# Altium schematic symbol library CHXXX.schlib: 542 symbols (part 8 of 8)
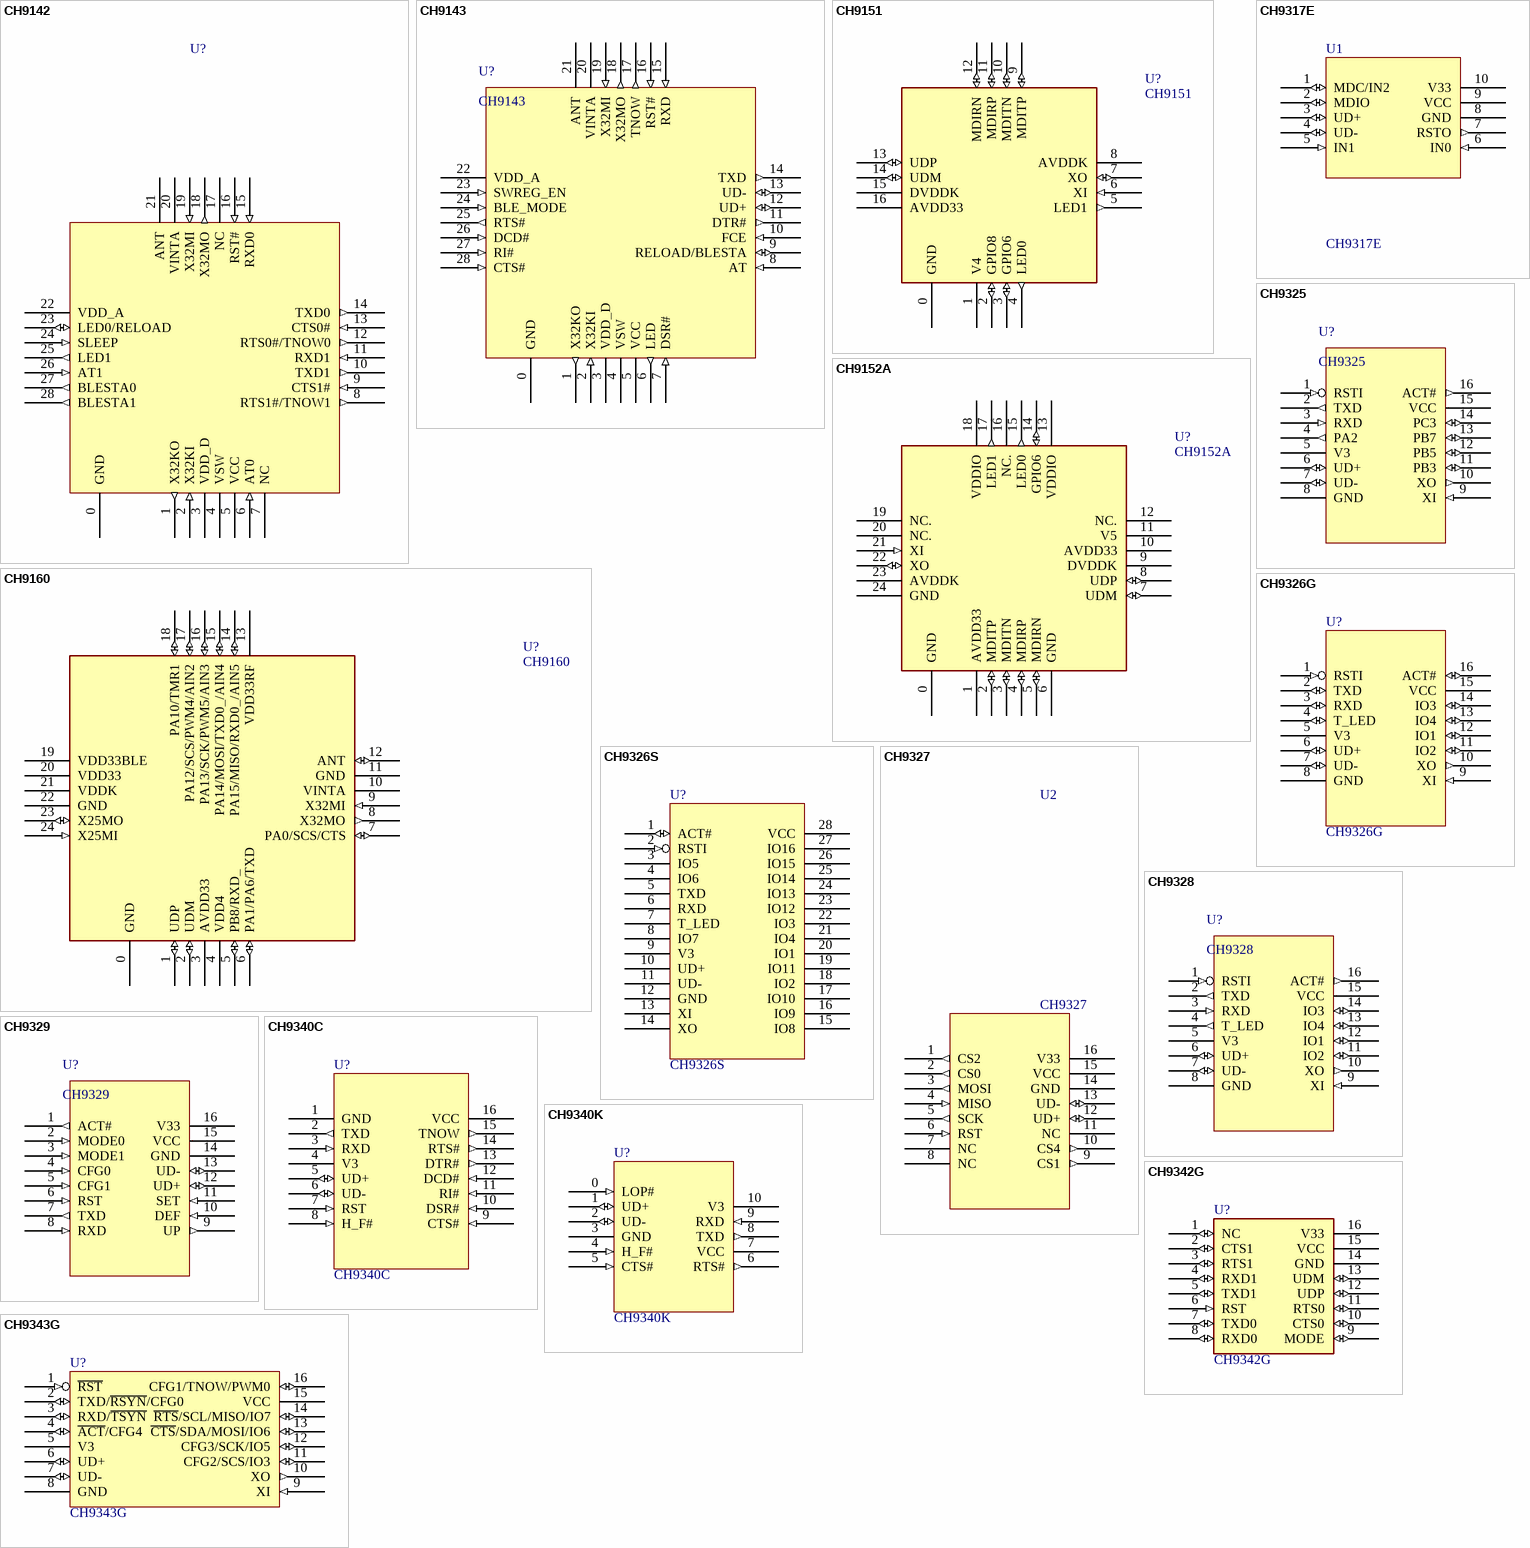
[diagram p78: symbols CH9142 to CH9343G]

## CH9340K
designator U?
USB CDC to TTL Serial / UART
footprint ESSOP10
pins: 0 LOP# (in), 1 UD+ (io), 2 UD- (io), 3 GND (power), 4 H_F# (in), 5 CTS# (in), 6 RTS# (out), 7 VCC (power), 8 TXD (out), 9 RXD (in), 10 V3 (power)

## CH9342G
designator U?
USB to dual TTL Serial / 2*UART
footprint SOP16
pins: 1 NC (io), 2 CTS1 (io), 3 RTS1 (io), 4 RXD1 (io), 5 TXD1 (io), 6 RST (in), 7 TXD0 (io), 8 RXD0 (io), 9 MODE (io), 10 CTS0 (io), 11 RTS0 (io), 12 UDP (io), 13 UDM (io), 14 GND (power), 15 VCC (power), 16 V33 (power)
2 alternate drawings of the same symbol

## CH9343G
designator U?
Full-Speed USB host for accessing peripheral hardware from Android platform
footprint SOP16
pins: 1 ~{RST} (in), 2 TXD/~{RSYN}/CFG0 (io), 3 RXD/~{TSYN} (io), 4 ~{ACT}/CFG4 (io), 5 V3 (power), 6 UD+ (io), 7 UD- (io), 8 GND (power), 9 XI (in), 10 XO (out), 11 CFG2/SCS/IO3 (io), 12 CFG3/SCK/IO5 (io), 13 ~{CTS}/SDA/MOSI/IO6 (io), 14 ~{RTS}/SCL/MISO/IO7 (io), 15 VCC (power), 16 CFG1/TNOW/PWM0 (io)

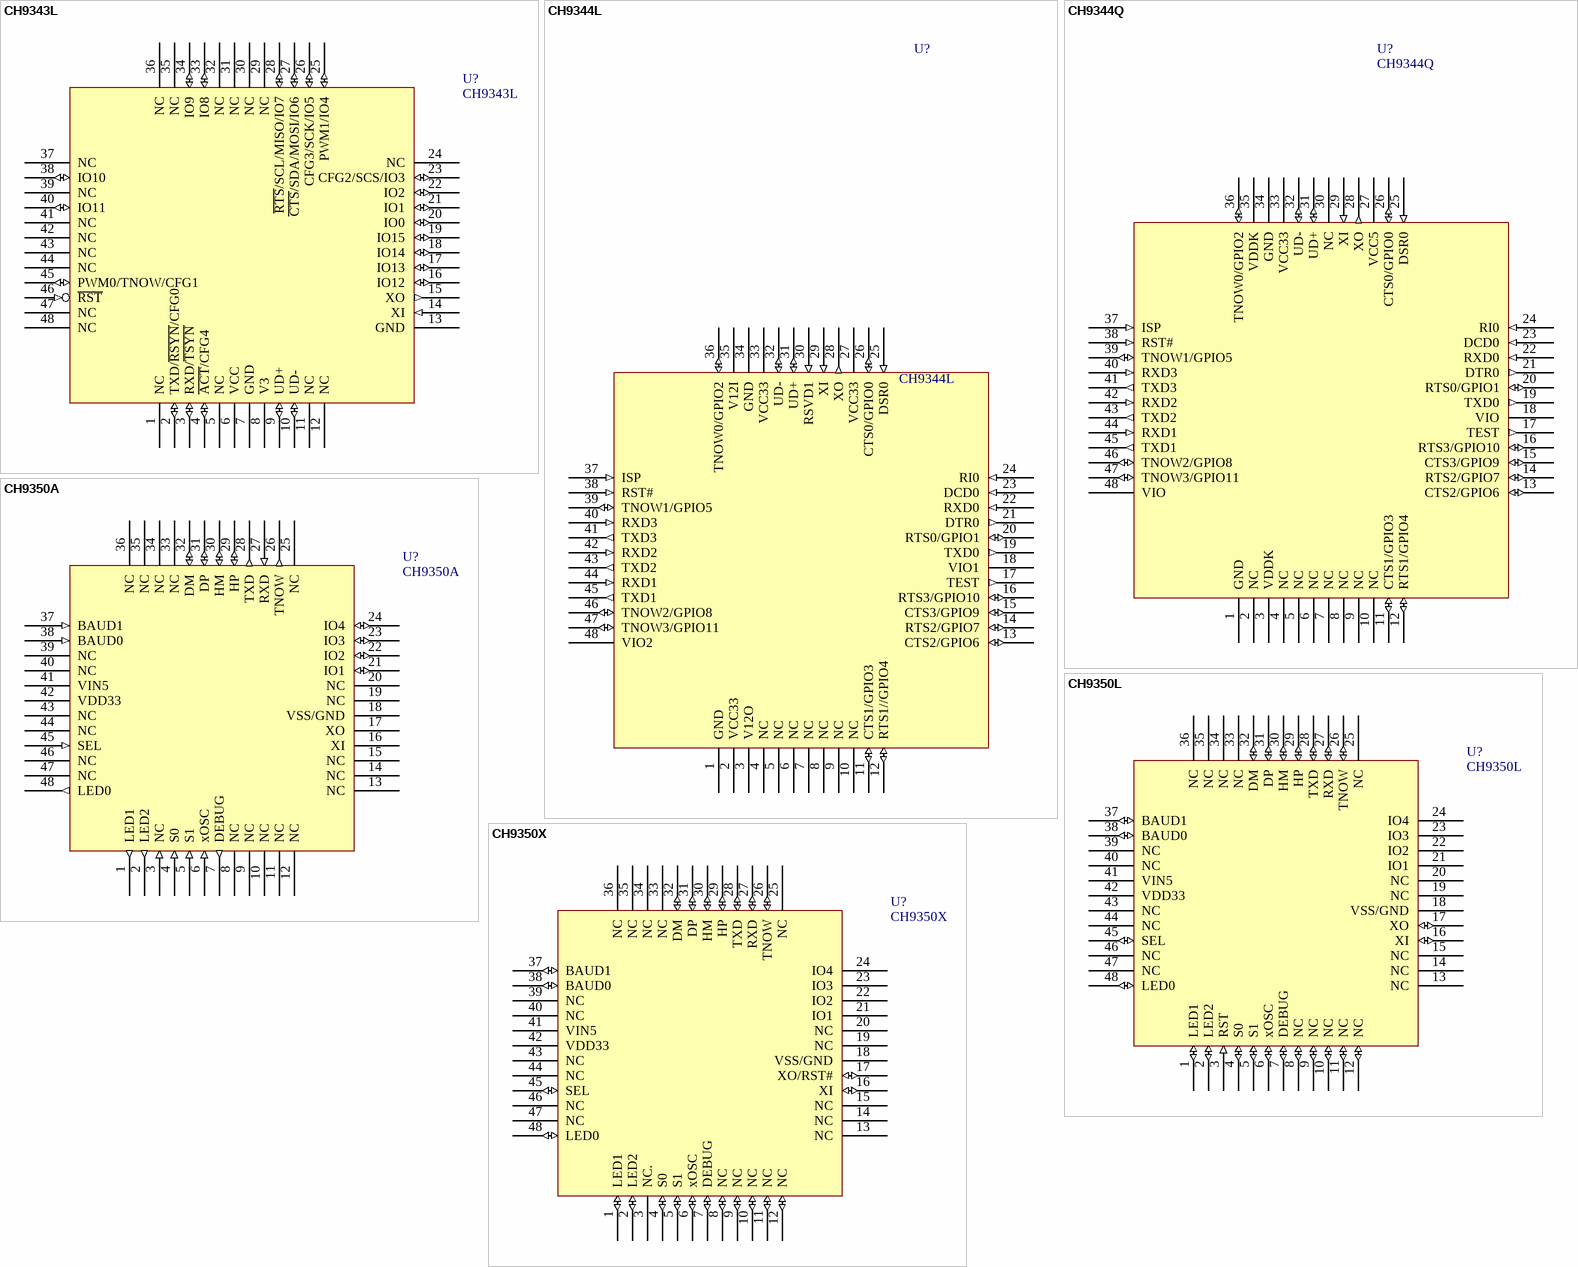
[diagram p68: symbols CH9343L to CH9350X]

## CH9343L
designator U?
Full-Speed USB host for accessing peripheral hardware from Android platform
footprint LQFP48
pins: 1 NC, 2 TXD/~{RSYN}/CFG0 (io), 3 RXD/~{TSYN} (io), 4 ~{ACT}/CFG4 (io), 5 NC, 6 VCC (power), 7 GND (power), 8 V3 (power), 9 UD+ (io), 10 UD- (io), 11 NC, 12 NC, 13 GND (power), 14 XI (in), 15 XO (out), 16 IO12 (io), 17 IO13 (io), 18 IO14 (io), 19 IO15 (io), 20 IO0 (io), 21 IO1 (io), 22 IO2 (io), 23 CFG2/SCS/IO3 (io), 24 NC, 25 PWM1/IO4 (io), 26 CFG3/SCK/IO5 (io), 27 ~{CTS}/SDA/MOSI/IO6 (io), 28 ~{RTS}/SCL/MISO/IO7 (io), 29 NC, 30 NC, 31 NC, 32 NC, 33 IO8 (io), 34 IO9 (io), 35 NC, 36 NC, 37 NC, 38 IO10 (io), 39 NC, 40 IO11 (io), 41 NC, 42 NC, 43 NC, 44 NC, 45 PWM0/TNOW/CFG1 (io), 46 ~{RST} (in), 47 NC, 48 NC

## CH9344L
designator U?
USB high-speed to quad TTL Serial / UART
footprint LQFP48
pins: 1 GND (power), 2 VCC33 (power), 3 V12O (power), 4 NC, 5 NC, 6 NC, 7 NC, 8 NC, 9 NC, 10 NC, 11 CTS1/GPIO3 (io), 12 RTS1//GPIO4 (io), 13 CTS2/GPIO6 (io), 14 RTS2/GPIO7 (io), 15 CTS3/GPIO9 (io), 16 RTS3/GPIO10 (io), 17 TEST (out), 18 VIO1 (power), 19 TXD0 (out), 20 RTS0/GPIO1 (io), 21 DTR0 (out), 22 RXD0 (in), 23 DCD0 (in), 24 RI0 (in), 25 DSR0 (in), 26 CTS0/GPIO0 (io), 27 VCC33 (power), 28 XO (out), 29 XI (in), 30 RSVD1 (in), 31 UD+ (io), 32 UD- (io), 33 VCC33 (power), 34 GND (power), 35 V12I (power), 36 TNOW0/GPIO2 (io), 37 ISP (in), 38 RST# (in), 39 TNOW1/GPIO5 (io), 40 RXD3 (in), 41 TXD3 (out), 42 RXD2 (in), 43 TXD2 (out), 44 RXD1 (in), 45 TXD1 (out), 46 TNOW2/GPIO8 (io), 47 TNOW3/GPIO11 (io), 48 VIO2 (power)

## CH9344Q
designator U?
USB high-speed to quad TTL Serial / UART
footprint LQFP48
pins: 1 GND (power), 2 NC, 3 VDDK (power), 4 NC, 5 NC, 6 NC, 7 NC, 8 NC, 9 NC, 10 NC, 11 CTS1/GPIO3 (io), 12 RTS1/GPIO4 (io), 13 CTS2/GPIO6 (io), 14 RTS2/GPIO7 (io), 15 CTS3/GPIO9 (io), 16 RTS3/GPIO10 (io), 17 TEST (out), 18 VIO (power), 19 TXD0 (out), 20 RTS0/GPIO1 (io), 21 DTR0 (out), 22 RXD0 (in), 23 DCD0 (in), 24 RI0 (in), 25 DSR0 (in), 26 CTS0/GPIO0 (io), 27 VCC5 (power), 28 XO (out), 29 XI (in), 30 NC, 31 UD+ (io), 32 UD- (io), 33 VCC33 (power), 34 GND (power), 35 VDDK (power), 36 TNOW0/GPIO2 (io), 37 ISP (in), 38 RST# (in), 39 TNOW1/GPIO5 (io), 40 RXD3 (in), 41 TXD3 (out), 42 RXD2 (in), 43 TXD2 (out), 44 RXD1 (in), 45 TXD1 (out), 46 TNOW2/GPIO8 (io), 47 TNOW3/GPIO11 (io), 48 VIO (power)

## CH9350A
designator U?
USB keyboard & USB mouse to TTL serial / UART
footprint LQFP48
pins: 1 LED1 (out), 2 LED2 (out), 3 NC (in), 4 S0 (in), 5 S1 (in), 6 xOSC (in), 7 DEBUG (out), 8 NC, 9 NC, 10 NC, 11 NC, 12 NC, 13 NC, 14 NC, 15 NC, 16 XI, 17 XO, 18 VSS/GND, 19 NC, 20 NC, 21 IO1 (io), 22 IO2 (io), 23 IO3 (io), 24 IO4 (io), 25 NC, 26 TNOW (out), 27 RXD (in), 28 TXD (out), 29 HP (io), 30 HM (io), 31 DP (io), 32 DM (io), 33 NC, 34 NC, 35 NC, 36 NC, 37 BAUD1 (in), 38 BAUD0 (in), 39 NC, 40 NC, 41 VIN5, 42 VDD33, 43 NC, 44 NC, 45 SEL (in), 46 NC, 47 NC, 48 LED0 (out)
2 alternate drawings of the same symbol

## CH9350L
designator U?
USB keyboard & USB mouse to TTL serial / UART
footprint LQFP48
pins: 1 LED1 (io), 2 LED2 (io), 3 RST (in), 4 S0 (io), 5 S1 (io), 6 xOSC (io), 7 DEBUG (io), 8 NC (io), 9 NC (io), 10 NC (io), 11 NC (io), 12 NC (io), 13 NC, 14 NC, 15 NC, 16 XI (io), 17 XO (io), 18 VSS/GND (power), 19 NC, 20 NC, 21 IO1, 22 IO2, 23 IO3, 24 IO4, 25 NC, 26 TNOW (io), 27 RXD (io), 28 TXD (io), 29 HP (io), 30 HM (io), 31 DP (io), 32 DM (io), 33 NC, 34 NC, 35 NC, 36 NC, 37 BAUD1 (io), 38 BAUD0 (io), 39 NC, 40 NC, 41 VIN5 (power), 42 VDD33 (power), 43 NC, 44 NC, 45 SEL (io), 46 NC, 47 NC, 48 LED0 (io)
2 alternate drawings of the same symbol

## CH9350X
designator U?
USB keyboard & USB mouse to TTL serial / UART
footprint LQFP48
pins: 1 LED1 (io), 2 LED2 (io), 3 NC., 4 S0 (io), 5 S1 (io), 6 xOSC (io), 7 DEBUG (io), 8 NC (io), 9 NC (io), 10 NC (io), 11 NC (io), 12 NC (io), 13 NC, 14 NC, 15 NC, 16 XI (io), 17 XO/RST# (io), 18 VSS/GND (power), 19 NC, 20 NC, 21 IO1, 22 IO2, 23 IO3, 24 IO4, 25 NC, 26 TNOW (io), 27 RXD (io), 28 TXD (io), 29 HP (io), 30 HM (io), 31 DP (io), 32 DM (io), 33 NC, 34 NC, 35 NC, 36 NC, 37 BAUD1 (io), 38 BAUD0 (io), 39 NC, 40 NC, 41 VIN5 (power), 42 VDD33 (power), 43 NC, 44 NC, 45 SEL (io), 46 NC, 47 NC, 48 LED0 (io)
2 alternate drawings of the same symbol

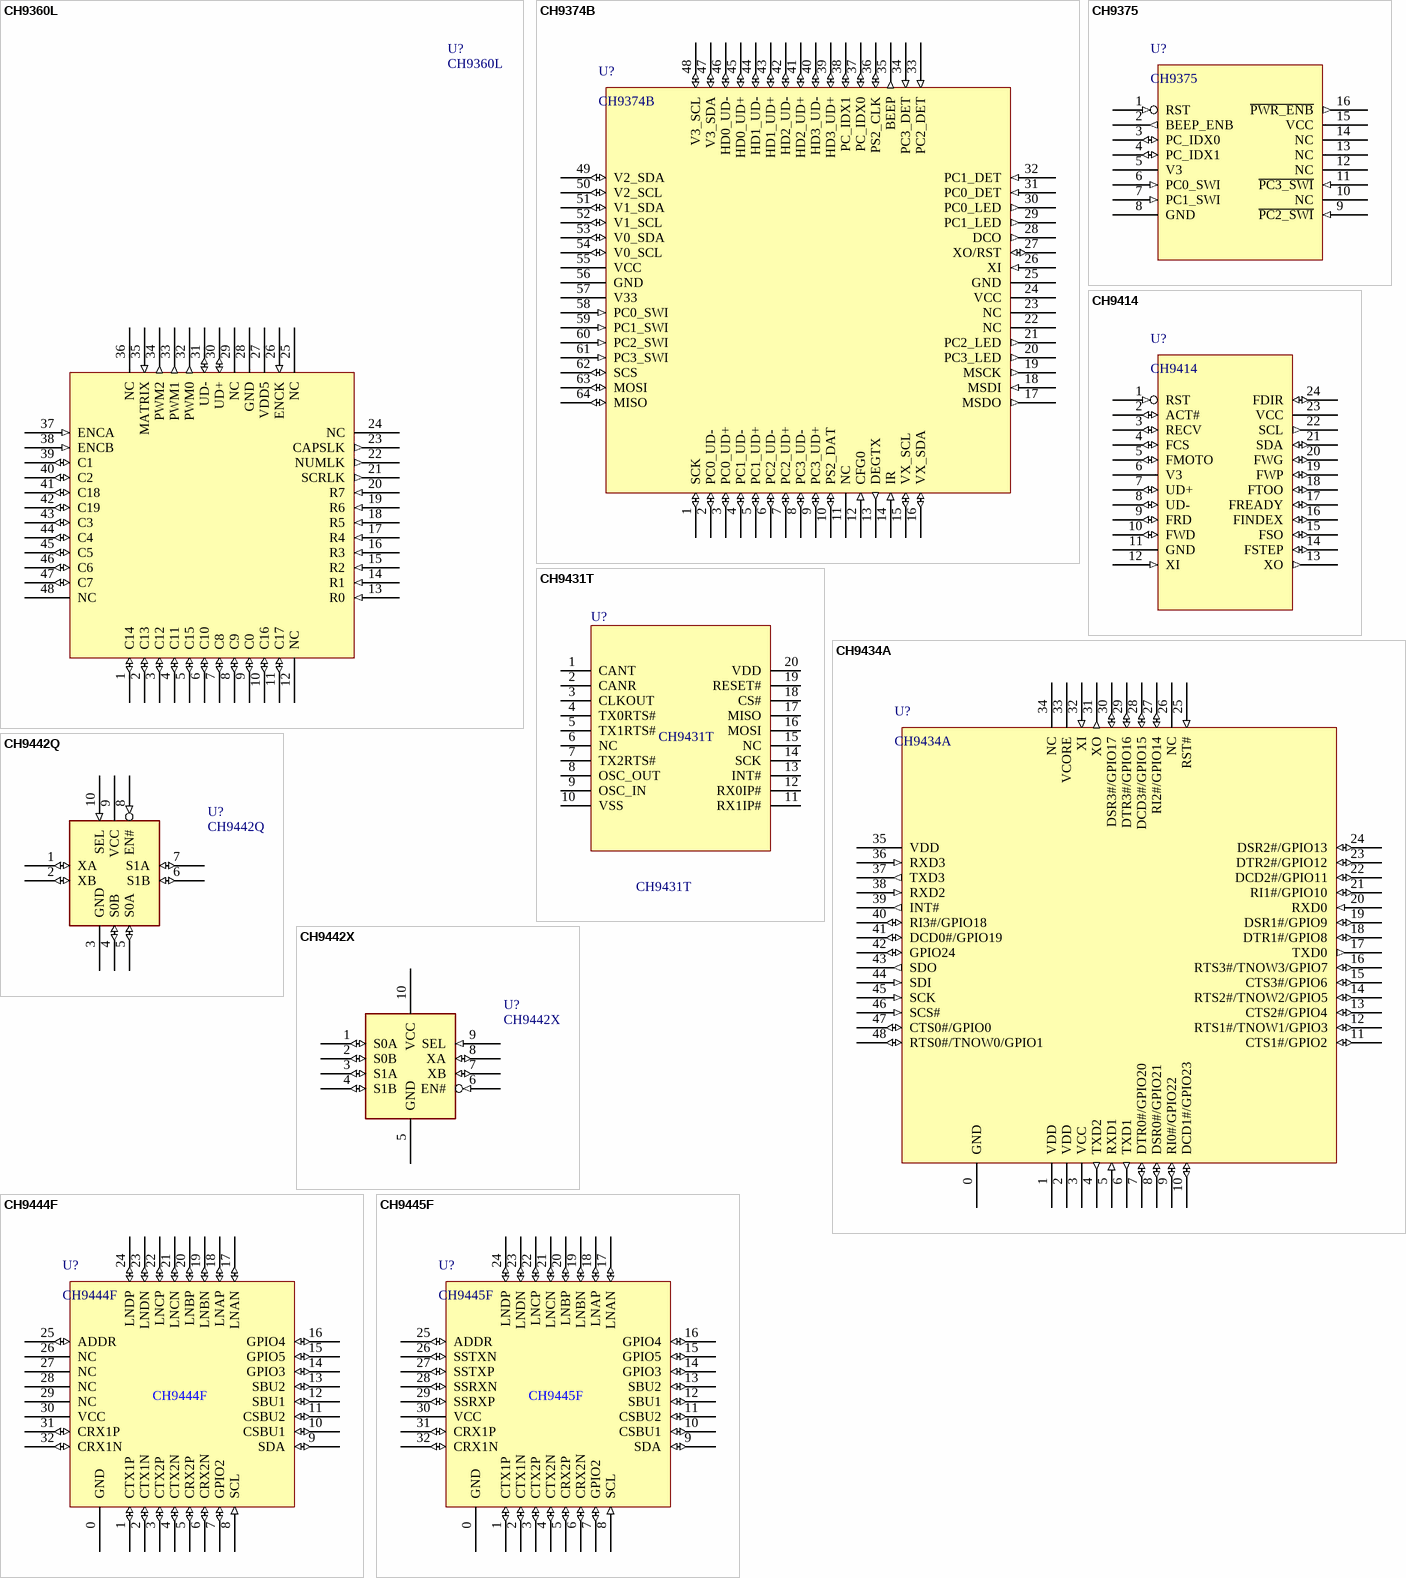
[diagram p69: symbols CH9360L to CH9445F]

## CH9360L
designator U?
USB keyboard controller
footprint LQFP48
pins: 1 C14 (io), 2 C13 (io), 3 C12 (io), 4 C11 (io), 5 C15 (io), 6 C10 (io), 7 C8 (io), 8 C9 (io), 9 C0 (io), 10 C16 (io), 11 C17 (io), 12 NC, 13 R0 (in), 14 R1 (in), 15 R2 (in), 16 R3 (in), 17 R4 (in), 18 R5 (in), 19 R6 (in), 20 R7 (in), 21 SCRLK (out), 22 NUMLK (out), 23 CAPSLK (out), 24 NC, 25 NC, 26 ENCK (in), 27 VDD5 (power), 28 GND (power), 29 NC, 30 UD+ (io), 31 UD- (io), 32 PWM0 (out), 33 PWM1 (out), 34 PWM2 (out), 35 MATRIX (in), 36 NC, 37 ENCA (in), 38 ENCB (in), 39 C1 (io), 40 C2 (io), 41 C18 (io), 42 C19 (io), 43 C3 (io), 44 C4 (io), 45 C5 (io), 46 C6 (io), 47 C7 (io), 48 NC

## CH9374B
designator U?
4-port USB KVM Switch
footprint LQFP64
pins: 1 SCK (io), 2 PC0_UD- (io), 3 PC0_UD+ (io), 4 PC1_UD- (io), 5 PC1_UD+ (io), 6 PC2_UD- (io), 7 PC2_UD+ (io), 8 PC3_UD- (io), 9 PC3_UD+ (io), 10 PS2_DAT (io), 11 NC, 12 CFG0 (in), 13 DEGTX (out), 14 IR (in), 15 VX_SCL (io), 16 VX_SDA (io), 17 MSDO (out), 18 MSDI (in), 19 MSCK (out), 20 PC3_LED (out), 21 PC2_LED (out), 22 NC, 23 NC, 24 VCC (power), 25 GND (power), 26 XI (in), 27 XO/RST (io), 28 DCO (out), 29 PC1_LED (out), 30 PC0_LED (out), 31 PC0_DET (in), 32 PC1_DET (in), 33 PC2_DET (in), 34 PC3_DET (in), 35 BEEP (out), 36 PS2_CLK (io), 37 PC_IDX0 (io), 38 PC_IDX1 (io), 39 HD3_UD+ (io), 40 HD3_UD- (io), 41 HD2_UD+ (io), 42 HD2_UD- (io), 43 HD1_UD+ (io), 44 HD1_UD- (io), 45 HD0_UD+ (io), 46 HD0_UD- (io), 47 V3_SDA (io), 48 V3_SCL (io), 49 V2_SDA (io), 50 V2_SCL (io), 51 V1_SDA (io), 52 V1_SCL (io), 53 V0_SDA (io), 54 V0_SCL (io), 55 VCC (power), 56 GND (power), 57 V33 (power), 58 PC0_SWI (in), 59 PC1_SWI (in), 60 PC2_SWI (in), 61 PC3_SWI (in), 62 SCS (io), 63 MOSI (io), 64 MISO (io)

## CH9375
designator U?
2-port/4-port manual USB KVM switch
footprint SOP16
pins: 1 RST (in), 2 BEEP_ENB (out), 3 PC_IDX0 (io), 4 PC_IDX1 (io), 5 V3 (power), 6 PC0_SWI (in), 7 PC1_SWI (in), 8 GND (power), 9 ~{PC2_SWI} (in), 10 NC, 11 ~{PC3_SWI} (in), 12 NC, 13 NC, 14 NC, 15 VCC (power), 16 ~{PWR_ENB} (out)

## CH9414
designator U?
USB floppy drive
footprint SSOP24
pins: 1 RST (in), 2 ACT# (io), 3 RECV (io), 4 FCS (io), 5 FMOTO (io), 6 V3 (power), 7 UD+ (io), 8 UD- (io), 9 FRD (io), 10 FWD (io), 11 GND (power), 12 XI (in), 13 XO (out), 14 FSTEP (io), 15 FSO (io), 16 FINDEX (io), 17 FREADY (io), 18 FTOO (io), 19 FWP (io), 20 FWG (io), 21 SDA (io), 22 SCL (out), 23 VCC (power), 24 FDIR (io)

## CH9431T
designator U?
SPI to CAN
footprint TSSOP20 (Footprint not found)
pins: 1 CANT, 2 CANR, 3 CLKOUT, 4 TX0RTS#, 5 TX1RTS#, 6 NC, 7 TX2RTS#, 8 OSC_OUT, 9 OSC_IN, 10 VSS (power), 11 RX1IP#, 12 RX0IP#, 13 INT#, 14 SCK, 15 NC, 16 MOSI, 17 MISO, 18 CS#, 19 RESET#, 20 VDD (power)

## CH9434A
designator U?
SPI to quad TTL Serial / 4*UART
footprint QFN48_5X5
pins: 0 GND (power), 1 VDD (power), 2 VDD (power), 3 VCC (power), 4 TXD2 (out), 5 RXD1 (in), 6 TXD1 (out), 7 DTR0#/GPIO20 (io), 8 DSR0#/GPIO21 (io), 9 RI0#/GPIO22 (io), 10 DCD1#/GPIO23 (io), 11 CTS1#/GPIO2 (io), 12 RTS1#/TNOW1/GPIO3 (io), 13 CTS2#/GPIO4 (io), 14 RTS2#/TNOW2/GPIO5 (io), 15 CTS3#/GPIO6 (io), 16 RTS3#/TNOW3/GPIO7 (io), 17 TXD0 (out), 18 DTR1#/GPIO8 (io), 19 DSR1#/GPIO9 (io), 20 RXD0 (in), 21 RI1#/GPIO10 (io), 22 DCD2#/GPIO11 (io), 23 DTR2#/GPIO12 (io), 24 DSR2#/GPIO13 (io), 25 RST# (in), 26 NC, 27 RI2#/GPIO14 (io), 28 DCD3#/GPIO15 (io), 29 DTR3#/GPIO16 (io), 30 DSR3#/GPIO17 (io), 31 XO (out), 32 XI (in), 33 VCORE (power), 34 NC, 35 VDD (power), 36 RXD3 (in), 37 TXD3 (out), 38 RXD2 (in), 39 INT# (out), 40 RI3#/GPIO18 (io), 41 DCD0#/GPIO19 (io), 42 GPIO24 (io), 43 SDO (out), 44 SDI (in), 45 SCK (in), 46 SCS# (in), 47 CTS0#/GPIO0 (io), 48 RTS0#/TNOW0/GPIO1 (io)

## CH9442Q
designator U?
USB Analog switch with Type-C High Voltage 28V OVP
footprint QFN10_14X18 (Footprint not found)
pins: 1 XA (io), 2 XB (io), 3 GND (power), 4 S0B (io), 5 S0A (io), 6 S1B (io), 7 S1A (io), 8 EN# (in), 9 VCC (power), 10 SEL (in)
2 alternate drawings of the same symbol

## CH9442X
designator U?
USB Analog switch with Type-C High Voltage 28V OVP
footprint QFN10_15X2 (Footprint not found)
pins: 1 S0A (io), 2 S0B (io), 3 S1A (io), 4 S1B (io), 5 GND (power), 6 EN# (in), 7 XB (io), 8 XA (io), 9 SEL (in), 10 VCC (power)
2 alternate drawings of the same symbol

## CH9444F
designator U?
Ultra high speed differential signal bidirectional analog switch, DP1.4 & USB3.0 & USB3.2 Gen2x2.
footprint QFN32_4X4
pins: 0 GND (power), 1 CTX1P (io), 2 CTX1N (io), 3 CTX2P (io), 4 CTX2N (io), 5 CRX2P (io), 6 CRX2N (io), 7 GPIO2 (io), 8 SCL (in), 9 SDA (io), 10 CSBU1 (io), 11 CSBU2 (io), 12 SBU1 (io), 13 SBU2 (io), 14 GPIO3 (io), 15 GPIO5 (io), 16 GPIO4 (io), 17 LNAN (io), 18 LNAP (io), 19 LNBN (io), 20 LNBP (io), 21 LNCN (io), 22 LNCP (io), 23 LNDN (io), 24 LNDP (io), 25 ADDR (io), 26 NC, 27 NC, 28 NC, 29 NC, 30 VCC (power), 31 CRX1P (io), 32 CRX1N (io)

## CH9445F
designator U?
Ultra high speed differential signal bidirectional analog switch, DP1.4 & USB3.0 & USB3.2 Gen2x2.
footprint QFN32_4X4
pins: 0 GND (power), 1 CTX1P (io), 2 CTX1N (io), 3 CTX2P (io), 4 CTX2N (io), 5 CRX2P (io), 6 CRX2N (io), 7 GPIO2 (io), 8 SCL (in), 9 SDA (io), 10 CSBU1 (io), 11 CSBU2 (io), 12 SBU1 (io), 13 SBU2 (io), 14 GPIO3 (io), 15 GPIO5 (io), 16 GPIO4 (io), 17 LNAN (io), 18 LNAP (io), 19 LNBN (io), 20 LNBP (io), 21 LNCN (io), 22 LNCP (io), 23 LNDN (io), 24 LNDP (io), 25 ADDR (io), 26 SSTXN (io), 27 SSTXP (io), 28 SSRXN (io), 29 SSRXP (io), 30 VCC (power), 31 CRX1P (io), 32 CRX1N (io)

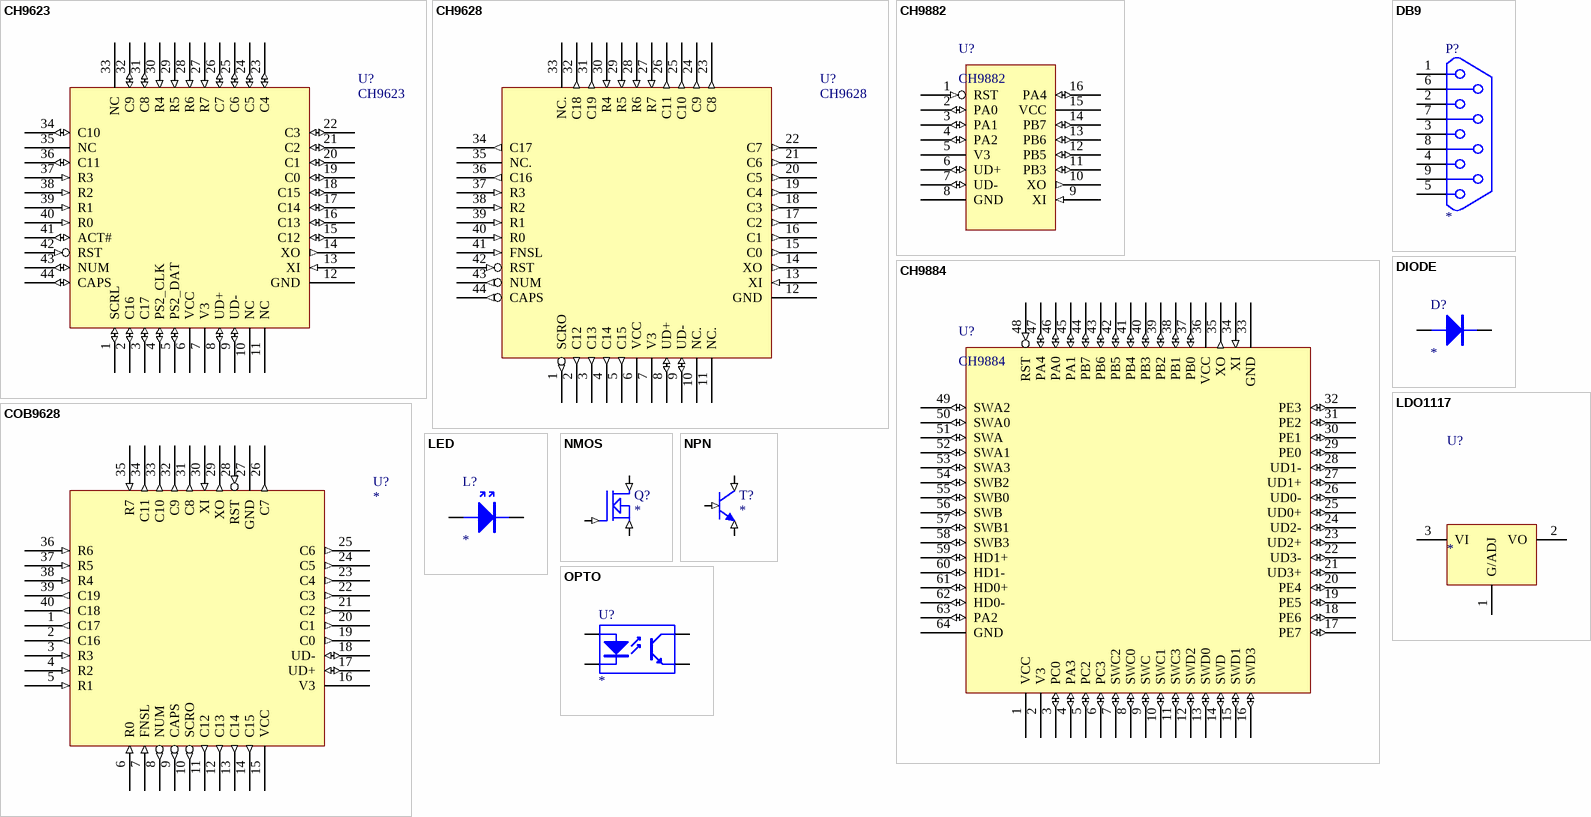
[diagram p70: symbols CH9623 to OPTO]

## CH9623
designator U?
USB keyboard controller with PS2 touchpad decoder
footprint LQFP44
pins: 1 SCRL (io), 2 C16 (io), 3 C17 (io), 4 PS2_CLK (io), 5 PS2_DAT (io), 6 VCC (power), 7 V3 (power), 8 UD+ (io), 9 UD- (io), 10 NC, 11 NC, 12 GND (power), 13 XI (in), 14 XO (out), 15 C12 (io), 16 C13 (io), 17 C14 (io), 18 C15 (io), 19 C0 (io), 20 C1 (io), 21 C2 (io), 22 C3 (io), 23 C4 (io), 24 C5 (io), 25 C6 (io), 26 C7 (io), 27 R7 (in), 28 R6 (in), 29 R5 (in), 30 R4 (in), 31 C8 (io), 32 C9 (io), 33 NC, 34 C10 (io), 35 NC, 36 C11 (io), 37 R3 (in), 38 R2 (in), 39 R1 (in), 40 R0 (in), 41 ACT# (io), 42 RST (in), 43 NUM (io), 44 CAPS (io)

## CH9628
designator U?
USB keyboard controller
footprint LQFP44
pins: 1 SCRO (out), 2 C12 (out), 3 C13 (out), 4 C14 (out), 5 C15 (out), 6 VCC (power), 7 V3 (power), 8 UD+ (io), 9 UD- (io), 10 NC., 11 NC., 12 GND (power), 13 XI (in), 14 XO (out), 15 C0 (out), 16 C1 (out), 17 C2 (out), 18 C3 (out), 19 C4 (out), 20 C5 (out), 21 C6 (out), 22 C7 (out), 23 C8 (out), 24 C9 (out), 25 C10 (out), 26 C11 (out), 27 R7 (in), 28 R6 (in), 29 R5 (in), 30 R4 (in), 31 C19 (out), 32 C18 (out), 33 NC., 34 C17 (out), 35 NC., 36 C16 (out), 37 R3 (in), 38 R2 (in), 39 R1 (in), 40 R0 (in), 41 FNSL (in), 42 RST (in), 43 NUM (out), 44 CAPS (out)

## CH9882
designator U?
2-port USB sharer
footprint SOP16
pins: 1 RST (in), 2 PA0 (io), 3 PA1 (io), 4 PA2 (io), 5 V3 (power), 6 UD+ (io), 7 UD- (io), 8 GND (power), 9 XI (in), 10 XO (out), 11 PB3 (io), 12 PB5 (io), 13 PB6 (io), 14 PB7 (io), 15 VCC (power), 16 PA4 (io)

## CH9884
designator U?
4-port USB sharer
footprint LQFP64
pins: 1 VCC (power), 2 V3 (power), 3 PC0 (io), 4 PA3 (io), 5 PC2 (io), 6 PC3 (io), 7 SWC2 (io), 8 SWC0 (io), 9 SWC (io), 10 SWC1 (io), 11 SWC3 (io), 12 SWD2 (io), 13 SWD0 (io), 14 SWD (io), 15 SWD1 (io), 16 SWD3 (io), 17 PE7 (io), 18 PE6 (io), 19 PE5 (io), 20 PE4 (io), 21 UD3+ (io), 22 UD3- (io), 23 UD2+ (io), 24 UD2- (io), 25 UD0+ (io), 26 UD0- (io), 27 UD1+ (io), 28 UD1- (io), 29 PE0 (io), 30 PE1 (io), 31 PE2 (io), 32 PE3 (io), 33 GND (power), 34 XI (in), 35 XO (out), 36 VCC (power), 37 PB0 (io), 38 PB1 (io), 39 PB2 (io), 40 PB3 (io), 41 PB4 (io), 42 PB5 (io), 43 PB6 (io), 44 PB7 (io), 45 PA1 (io), 46 PA0 (io), 47 PA4 (io), 48 RST (in), 49 SWA2 (io), 50 SWA0 (io), 51 SWA (io), 52 SWA1 (io), 53 SWA3 (io), 54 SWB2 (io), 55 SWB0 (io), 56 SWB (io), 57 SWB1 (io), 58 SWB3 (io), 59 HD1+ (io), 60 HD1- (io), 61 HD0+ (io), 62 HD0- (io), 63 PA2 (io), 64 GND (power)

## COB9628
designator U?
USB keyboard controller
footprint COB40
pins: 1 C17 (out), 2 C16 (out), 3 R3 (in), 4 R2 (in), 5 R1 (in), 6 R0 (in), 7 FNSL (in), 8 NUM (out), 9 CAPS (out), 10 SCRO (out), 11 C12 (out), 12 C13 (out), 13 C14 (out), 14 C15 (out), 15 VCC (power), 16 V3 (power), 17 UD+ (io), 18 UD- (io), 19 C0 (out), 20 C1 (out), 21 C2 (out), 22 C3 (out), 23 C4 (out), 24 C5 (out), 25 C6 (out), 26 C7 (out), 27 GND (power), 28 RST (in), 29 XO (out), 30 XI (in), 31 C8 (out), 32 C9 (out), 33 C10 (out), 34 C11 (out), 35 R7 (in), 36 R6 (in), 37 R5 (in), 38 R4 (in), 39 C19 (out), 40 C18 (out)

## DB9
designator P?
footprint DB9/M
footprint DB9/F
pins: 1, 2, 3, 4, 5, 6, 7, 8, 9
2 alternate drawings of the same symbol

## DIODE
designator D?
Diode
footprint 3216+
footprint 0805+
footprint 0603+
pins: 1 A, 2 K
2 alternate drawings of the same symbol

## LDO1117
designator U?
LDO
footprint SOT-223
footprint SOT-23 (Footprint not found)
footprint SOT-23-3 (Footprint not found)
pins: 1 G/ADJ (power), 2 VO (power), 3 VI (power)
2 alternate drawings of the same symbol

## LED
designator L?
LED
footprint 0805+
footprint 3216+
footprint 0603+
pins: 1 A, 2 K
2 alternate drawings of the same symbol

## NMOS
designator Q?
N-MOSFET
footprint SOT-523
footprint SOT-23 (Footprint not found)
pins: 1 G (in), 2 S (in), 3 D (in)
2 alternate drawings of the same symbol

## NPN
designator T?
NPN BJT
footprint SOT-23 (Footprint not found)
pins: 1 B (in), 2 E (in), 3 C (in)

## OPTO
designator U?
Optoisolator
footprint DIP4
footprint SOP4
pins: 1 A, 2 K, 3 E, 4 C
2 alternate drawings of the same symbol

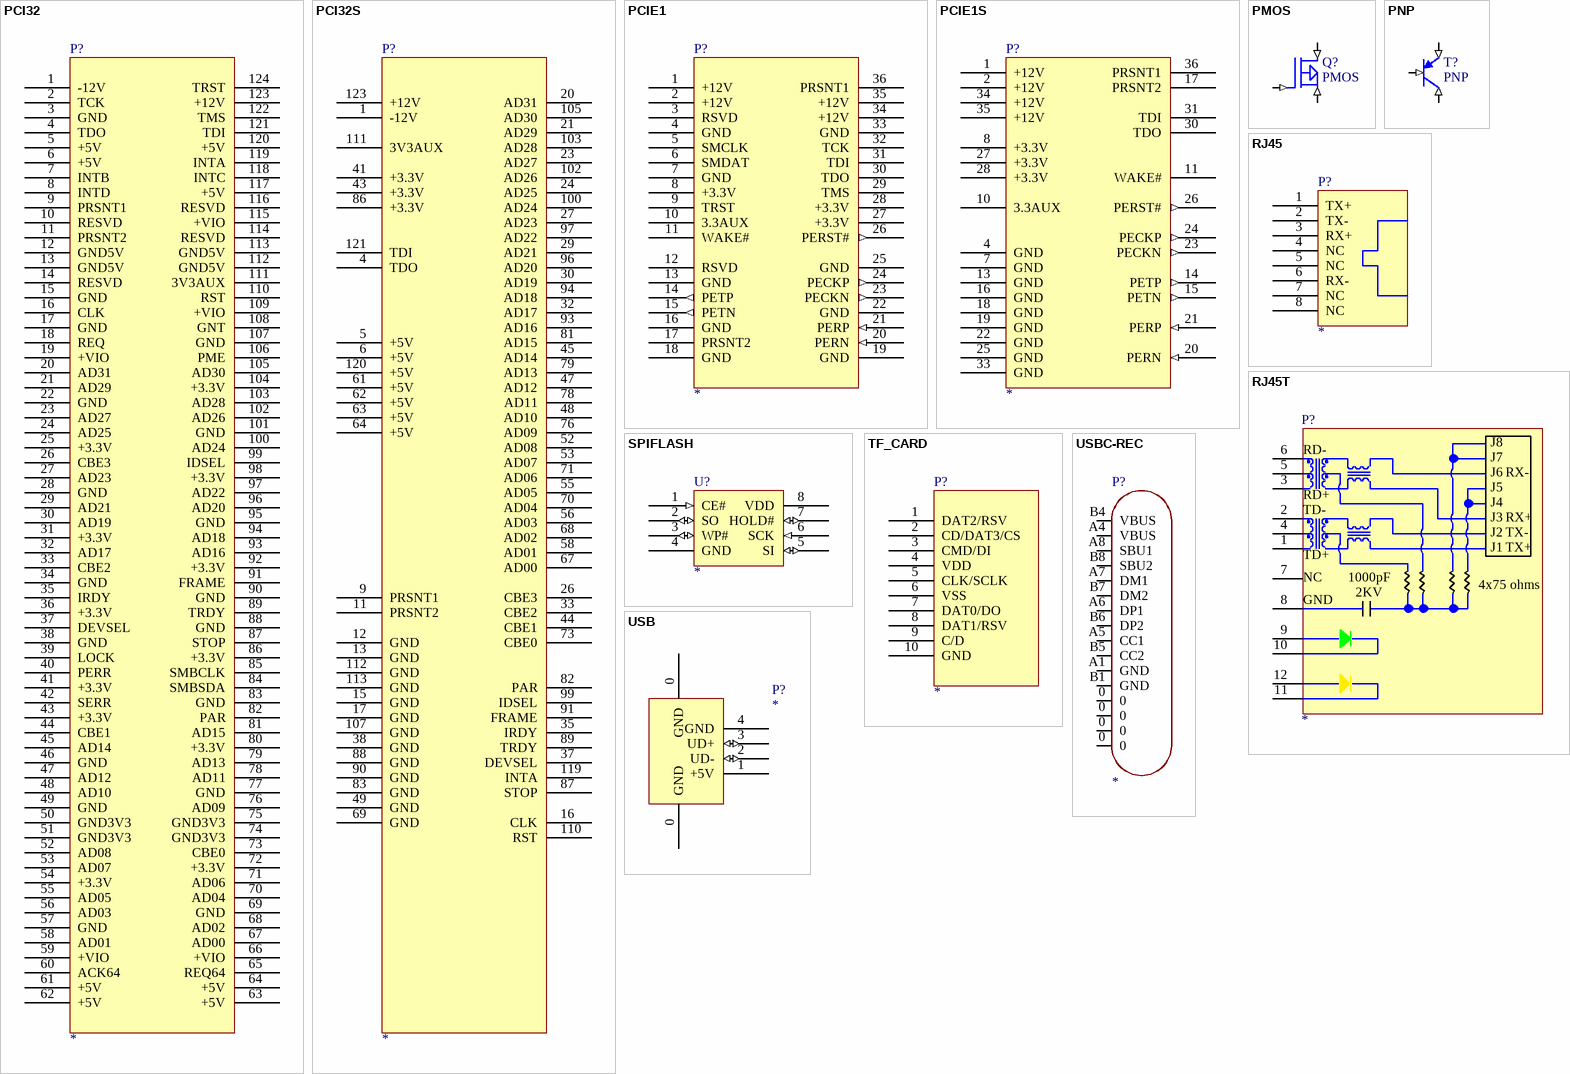
[diagram p71: symbols PCI32 to USBC-REC]

## PCI32
designator P?
32Bit PCI Bus
footprint PCI32
pins: 1 -12V, 2 TCK, 3 GND, 4 TDO, 5 +5V, 6 +5V, 7 INTB, 8 INTD, 9 PRSNT1, 10 RESVD, 11 PRSNT2, 12 GND5V, 13 GND5V, 14 RESVD, 15 GND, 16 CLK, 17 GND, 18 REQ, 19 +VIO, 20 AD31, 21 AD29, 22 GND, 23 AD27, 24 AD25, 25 +3.3V, 26 CBE3, 27 AD23, 28 GND, 29 AD21, 30 AD19, 31 +3.3V, 32 AD17, 33 CBE2, 34 GND, 35 IRDY, 36 +3.3V, 37 DEVSEL, 38 GND, 39 LOCK, 40 PERR, 41 +3.3V, 42 SERR, 43 +3.3V, 44 CBE1, 45 AD14, 46 GND, 47 AD12, 48 AD10, 49 GND, 50 GND3V3, 51 GND3V3, 52 AD08, 53 AD07, 54 +3.3V, 55 AD05, 56 AD03, 57 GND, 58 AD01, 59 +VIO, 60 ACK64, 61 +5V, 62 +5V, 63 +5V, 64 +5V, 65 REQ64, 66 +VIO, 67 AD00, 68 AD02, 69 GND, 70 AD04, 71 AD06, 72 +3.3V, 73 CBE0, 74 GND3V3, 75 GND3V3, 76 AD09, 77 GND, 78 AD11, 79 AD13, 80 +3.3V, 81 AD15, 82 PAR, 83 GND, 84 SMBSDA, 85 SMBCLK, 86 +3.3V, 87 STOP, 88 GND, 89 TRDY, 90 GND, 91 FRAME, 92 +3.3V, 93 AD16, 94 AD18, 95 GND, 96 AD20, 97 AD22, 98 +3.3V, 99 IDSEL, 100 AD24, 101 GND, 102 AD26, 103 AD28, 104 +3.3V, 105 AD30, 106 PME, 107 GND, 108 GNT, 109 +VIO, 110 RST, 111 3V3AUX, 112 GND5V, 113 GND5V, 114 RESVD, 115 +VIO, 116 RESVD, 117 +5V, 118 INTC, 119 INTA, 120 +5V, 121 TDI, 122 TMS, 123 +12V, 124 TRST

## PCI32S
designator P?
32Bit PCI Bus, simple / short card
footprint PCI32
footprint PCI32S
pins: 1 -12V, 4 TDO, 5 +5V, 6 +5V, 9 PRSNT1, 11 PRSNT2, 12 GND, 13 GND, 15 GND, 16 CLK, 17 GND, 20 AD31, 21 AD29, 23 AD27, 24 AD25, 26 CBE3, 27 AD23, 29 AD21, 30 AD19, 32 AD17, 33 CBE2, 35 IRDY, 37 DEVSEL, 38 GND, 41 +3.3V, 43 +3.3V, 44 CBE1, 45 AD14, 47 AD12, 48 AD10, 49 GND, 52 AD08, 53 AD07, 55 AD05, 56 AD03, 58 AD01, 61 +5V, 62 +5V, 63 +5V, 64 +5V, 67 AD00, 68 AD02, 69 GND, 70 AD04, 71 AD06, 73 CBE0, 76 AD09, 78 AD11, 79 AD13, 81 AD15, 82 PAR, 83 GND, 86 +3.3V, 87 STOP, 88 GND, 89 TRDY, 90 GND, 91 FRAME, 93 AD16, 94 AD18, 96 AD20, 97 AD22, 99 IDSEL, 100 AD24, 102 AD26, 103 AD28, 105 AD30, 107 GND, 110 RST, 111 3V3AUX, 112 GND, 113 GND, 119 INTA, 120 +5V, 121 TDI, 123 +12V

## PCIE1
designator P?
PCIe Bus 1X
footprint PCIE1
pins: 1 +12V (power), 2 +12V (power), 3 RSVD, 4 GND (power), 5 SMCLK, 6 SMDAT, 7 GND (power), 8 +3.3V (power), 9 TRST, 10 3.3AUX (power), 11 WAKE#, 12 RSVD, 13 GND (power), 14 PETP (out), 15 PETN (out), 16 GND (power), 17 PRSNT2, 18 GND (power), 19 GND (power), 20 PERN (in), 21 PERP (in), 22 GND (power), 23 PECKN (out), 24 PECKP (out), 25 GND (power), 26 PERST# (out), 27 +3.3V (power), 28 +3.3V (power), 29 TMS, 30 TDO, 31 TDI, 32 TCK, 33 GND (power), 34 +12V (power), 35 +12V (power), 36 PRSNT1

## PCIE1S
designator P?
PCIe Bus 1X, simple
footprint PCIE1
pins: 1 +12V (power), 2 +12V (power), 4 GND (power), 7 GND (power), 8 +3.3V (power), 10 3.3AUX (power), 11 WAKE#, 13 GND (power), 14 PETP (out), 15 PETN (out), 16 GND (power), 17 PRSNT2, 18 GND (power), 19 GND (power), 20 PERN (in), 21 PERP (in), 22 GND (power), 23 PECKN (out), 24 PECKP (out), 25 GND (power), 26 PERST# (out), 27 +3.3V (power), 28 +3.3V (power), 30 TDO, 31 TDI, 33 GND (power), 34 +12V (power), 35 +12V (power), 36 PRSNT1

## PMOS
designator Q?
P-MOSFET
footprint SOT-523
footprint SOT-23 (Footprint not found)
pins: 1 G (in), 2 S (in), 3 D (in)
2 alternate drawings of the same symbol

## PNP
designator T?
PNP BJT
footprint SOT-23 (Footprint not found)
pins: 1 B (in), 2 E (in), 3 C (in)

## RJ45
designator P?
RJ45 for Ethernet
footprint RJ45
pins: 1 TX+, 2 TX-, 3 RX+, 4 NC, 5 NC, 6 RX-, 7 NC, 8 NC
2 alternate drawings of the same symbol

## RJ45T
designator P?
RJ45 for Ethernet with Isolation Transformer
footprint RJ45T
footprint RJ45A
pins: 1, 2, 3, 4, 5, 6, 7, 8, 9, 10, 11, 12
2 alternate drawings of the same symbol
text: J8; RD-; J7; J6; RX-; J5; RD+; J4; TD-; J3; RX+; J2; TX-; J1; TX+; TD+; NC; 1000pF; 4x75 ohms; 2KV; GND

## SPIFLASH
designator U?
SPI Flash ROM
footprint SOP8
pins: 1 CE# (in), 2 SO (io), 3 WP# (io), 4 GND (power), 5 SI (io), 6 SCK (in), 7 HOLD# (io), 8 VDD (power)
2 alternate drawings of the same symbol

## TF_CARD
designator P?
TF card interface
footprint TF_CARD
pins: 1 DAT2/RSV, 2 CD/DAT3/CS, 3 CMD/DI, 4 VDD, 5 CLK/SCLK, 6 VSS, 7 DAT0/DO, 8 DAT1/RSV, 9 C/D, 10 GND
2 alternate drawings of the same symbol

## USB
designator P?
USB Port
footprint USBAF
footprint USBB
pins: 0 GND (power), 0 GND (power), 1 +5V (power), 2 UD- (io), 3 UD+ (io), 4 GND (power)

## USBC-REC
designator P?
USB Type-C USB
footprint TYPE-C-Receptacle-2.0
pins: 0, 0, 0, 0, A1 GND, A4 VBUS, A5 CC1, A6 DP1, A7 DM1, A8 SBU1, B1 GND, B4 VBUS, B5 CC2, B6 DP2, B7 DM2, B8 SBU2
2 alternate drawings of the same symbol